# EAGLE library part MT88L70 (library microsemi)
CMOS Integrated DTMF Receiver cm8870.pdf
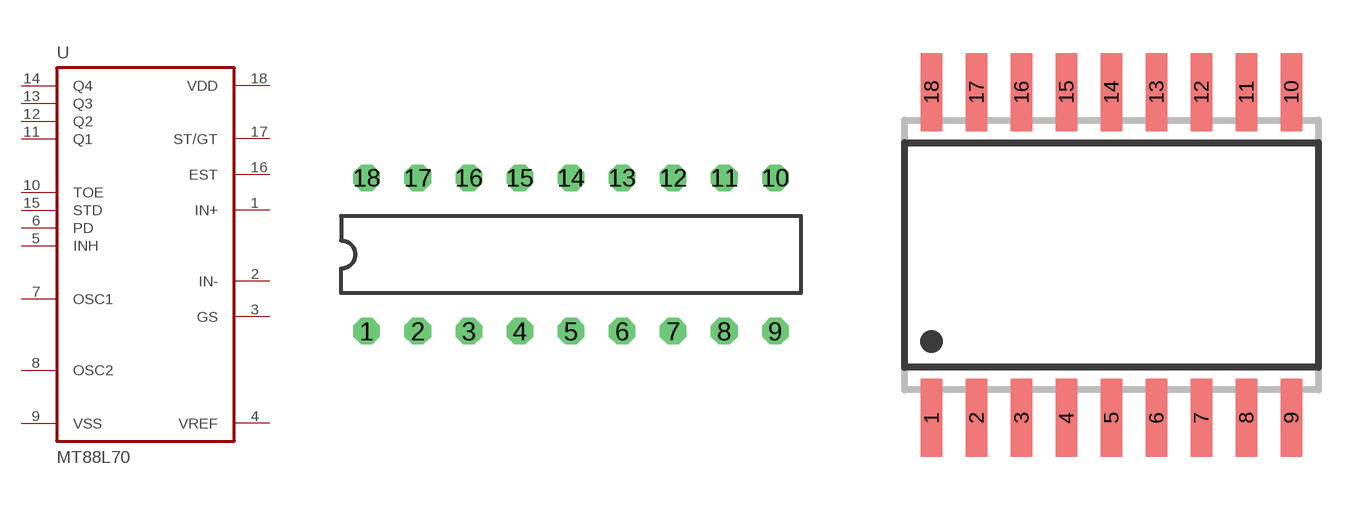
[diagram p2: symbol with the pads of DIL18; footprints DIL18, SO18W]

Designator prefix U

## MT88L70P  [DIL18]
1  IN+  in
2  IN-  in
3  GS  in
4  VREF  out
5  INH  in
6  PD  in
7  OSC1  in
8  OSC2
9  VSS  pwr
10  TOE  in
11  Q1  out
12  Q2  out
13  Q3  out
14  Q4  out
15  STD  in
16  EST  in
17  ST/GT
18  VDD  pwr

## MT88L70S  [SO18W]
Pads as for DIL18

## Footprint DIL18 (pad centres in mm)
Dual In Line Package
drill 0.813 octagon: 1 -10.16,-3.81; 2 -7.62,-3.81; 3 -5.08,-3.81; 4 -2.54,-3.81; 5 0,-3.81; 6 2.54,-3.81; 7 5.08,-3.81; 8 7.62,-3.81; 9 10.16,-3.81; 10 10.16,3.81; 11 7.62,3.81; 12 5.08,3.81; 13 2.54,3.81; 14 0,3.81; 15 -2.54,3.81; 16 -5.08,3.81; 17 -7.62,3.81; 18 -10.16,3.81

## Footprint SO18W (pad centres in mm)
SMALL OUTLINE INTEGRATED CIRCUIT wide body 7.5 mm
smd 0.6 x 2.2: 1 -5.08,-4.6; 2 -3.81,-4.6; 3 -2.54,-4.6; 4 -1.27,-4.6; 5 0,-4.6; 6 1.27,-4.6; 7 2.54,-4.6; 8 3.81,-4.6; 9 5.08,-4.6; 10 5.08,4.6; 11 3.81,4.6; 12 2.54,4.6; 13 1.27,4.6; 14 0,4.6; 15 -1.27,4.6; 16 -2.54,4.6; 17 -3.81,4.6; 18 -5.08,4.6